# Altium footprint library KM_BD01.PcbLib: 27 footprints (part 1 of 2)
Each footprint in its own frame and in the unit in brackets; x right, y up, seen from the top. Pads: shape width x height; smd on the part's side, far side on the other; paste and mask are expansions set on the pad; w line width, h text height; cw(c..) or ccw(c..) is an arc to the next point about the centre after c.
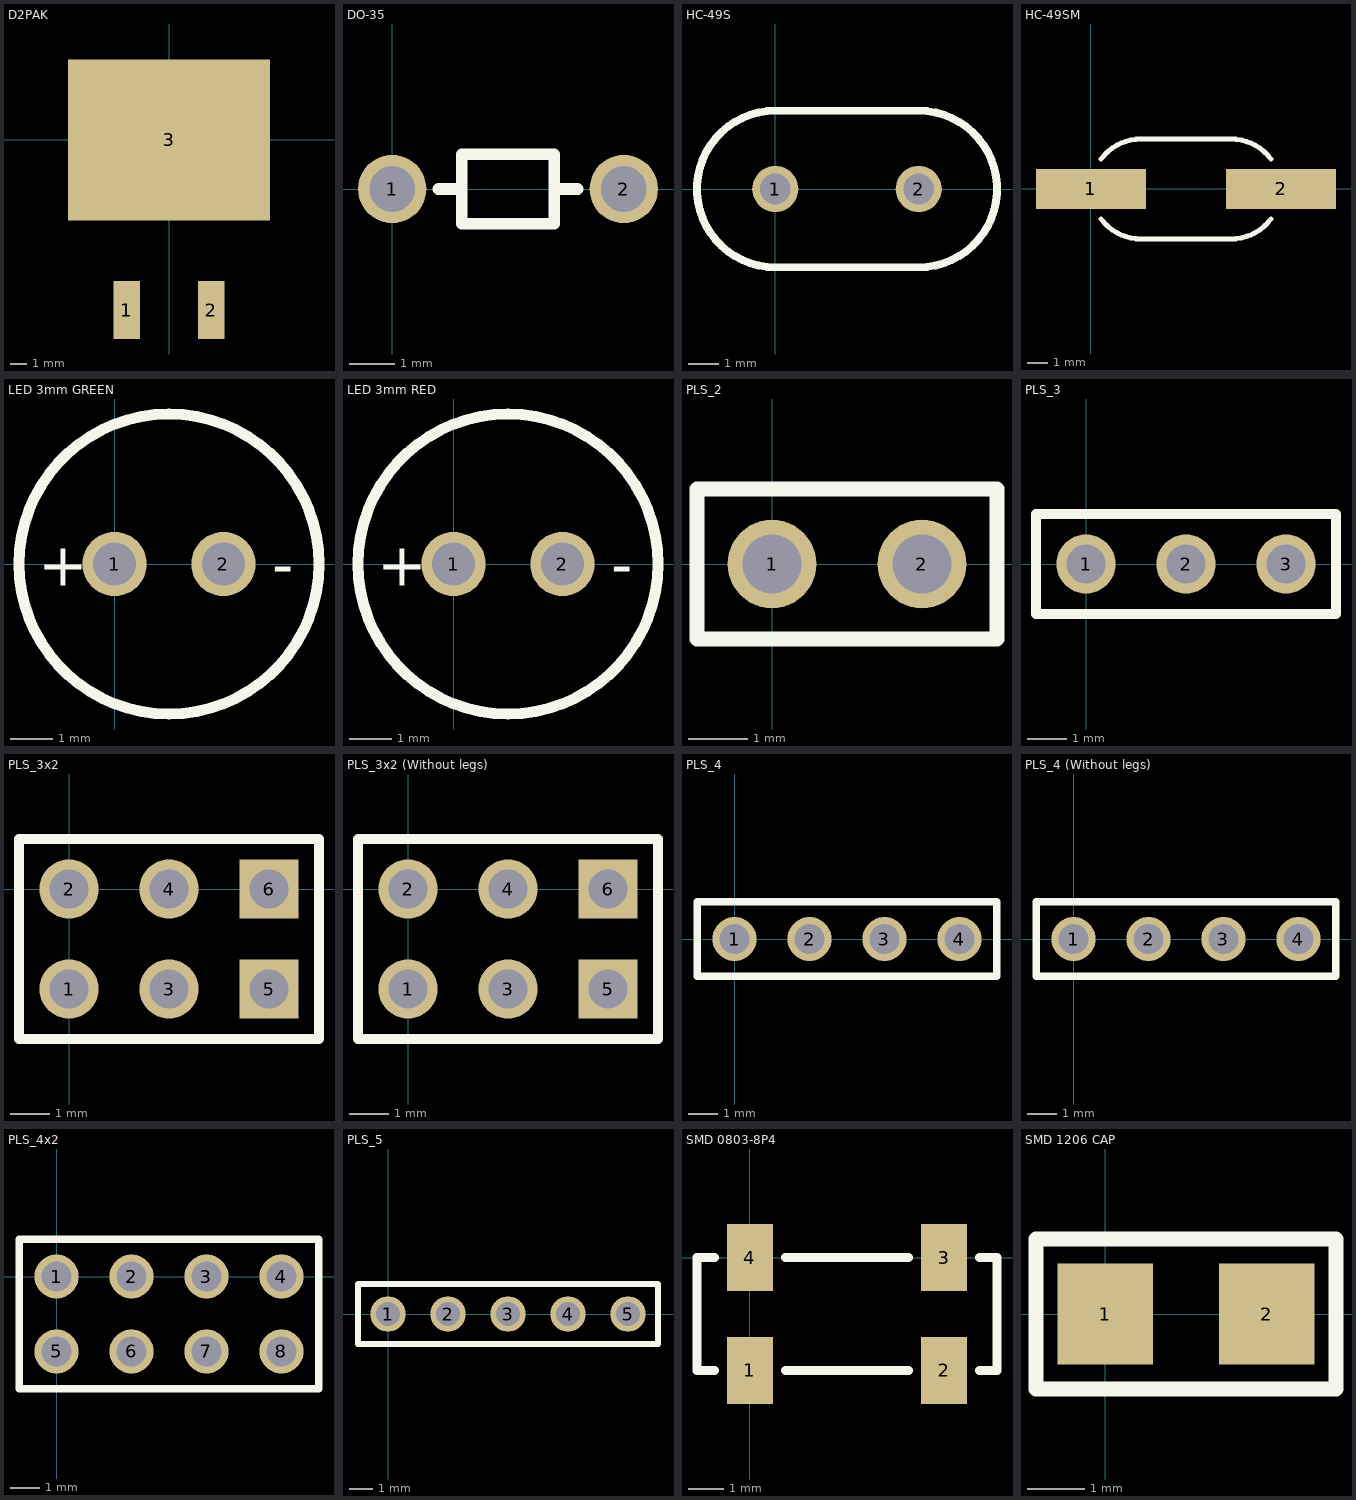
[diagram p0: the footprints below, top view; thin cyan lines are the x and y axes]

## D2PAK [mm]
pads (3):
  rect 1.6x3.5 smd: 1(-2.54,-10.275) 2(2.54,-10.275)
  rect 12.2x9.75 smd: 3(0,0)
3D body "TO-263AB.stp": height 4.8, standoff 0, extent -5.321,-11.556 5.321,4.294

## DO-35 [mm]
pads (2):
  round 1.5 hole 1: 1(0,0) 2(5.08,0)
Top Overlay:
  lines w0.254: 1.016,0 1.524,0 ; 3.556,0 4.064,0 ; 1.524,-0.762 3.556,-0.762 3.556,0.762 1.524,0.762 1.524,-0.762
3D body "DO-35 diode.STEP": height 1.51, standoff -0.75, extent -0.185,-0.76 5.265,0.76

## HC-49S [mm] "Oscillator"
pads (2):
  round 1.5 hole 1: 1(0,0) 2(4.65,0)
Top Overlay:
  lines w0.254: 0,-2.54 cw(c0,0) 0,2.54 4.65,2.54 cw(c4.65,0) 4.65,-2.54 0,-2.54
3D body "HC-49S.stp": height 4, standoff -3, extent -3.314,-2.425 7.886,2.425

## HC-49SM [mm] "SMD version of HC-49S"
pads (2):
  rect 5.5x2 smd: 1(0,0) 2(9.5,0)
Top Overlay:
  lines w0.254: 0.5,-1.5 ccw(c2.5,0) 2.5,-2.5 7,-2.5 ccw(c7,0) 9,-1.5 ; 0.5,1.5 cw(c2.5,0) 2.5,2.5 7,2.5 cw(c7,0) 9,1.5
3D body "HC-49SM.stp": height 4, standoff 0, extent -1.95,-2.4 11.45,2.4

## LED 3mm GREEN [mm]
pads (2):
  round 1.5 hole 1.01: 1(0,0) 2(2.54,0)
Top Overlay:
  circle w0.254: c1.27,0 r3.5
  text "-" at 3.683,-0.508 h1.02
  text "+" at -1.778,-0.508 h1.02
3D body "LED 5mm green TH.stp": height 9.2, standoff -2.95, extent -1.68,-2.949 3.72,2.949

## LED 3mm RED [mm]
pads (2):
  round 1.5 hole 1.01: 1(0,0) 2(2.54,0)
Top Overlay:
  circle w0.254: c1.27,0 r3.5
  text "+" at -1.778,-0.508 h1.02
  text "-" at 3.683,-0.508 h1.02
3D body "LED 5mm red TH.stp": height 9.2, standoff -2.95, extent -1.68,-2.949 3.72,2.949

## PLS_2 [mm]
pads (2):
  round 1.5 hole 1: 1(0,0) 2(2.54,0)
Top Overlay:
  lines w0.254: -1.27,-1.27 -1.27,1.27 3.81,1.27 3.81,-1.27 -1.27,-1.27
3D body "PLS-1x2 R.stp": height 2.5, standoff -3, extent -1.27,-10.03 3.81,0.32

## PLS_3 [mm]
pads (3):
  round 1.5 hole 1: 1(0,0) 2(2.54,0) 3(5.08,0)
Top Overlay:
  lines w0.254: -1.27,-1.27 -1.27,1.27 6.35,1.27 6.35,-1.27 -1.27,-1.27
3D body "PLS-1x3 R.stp": height 2.5, standoff -3, extent -1.27,-10.03 6.35,0.32

## PLS_3x2 [mm]
pads (6):
  round 1.5 hole 1: 1(0,-2.54) 2(0,0) 3(2.54,-2.54) 4(2.54,0)
  rect 1.5x1.5 hole 1: 5(5.08,-2.54) 6(5.08,0)
Top Overlay:
  lines w0.254: -1.27,-3.81 -1.27,1.27 6.35,1.27 6.35,-3.81 -1.27,-3.81
3D body "PLS-2x3 R.stp": height 5, standoff -3, extent -1.27,-12.72 6.35,0.32

## PLS_3x2 (Without legs) [mm]
pads (6):
  round 1.5 hole 1: 1(0,-2.54) 2(0,0) 3(2.54,-2.54) 4(2.54,0)
  rect 1.5x1.5 hole 1: 5(5.08,-2.54) 6(5.08,0)
Top Overlay:
  lines w0.254: -1.27,-3.81 6.35,-3.81 6.35,1.27 -1.27,1.27 -1.27,-3.81

## PLS_4 [mm]
pads (4):
  round 1.5 hole 1: 1(0,0) 2(2.54,0) 3(5.08,0) 4(7.62,0)
Top Overlay:
  lines w0.254: -1.27,-1.27 -1.27,1.27 8.89,1.27 8.89,-1.27 -1.27,-1.27
3D body "PLS-1x4 R.stp": height 2.5, standoff -3, extent -1.27,-10.03 8.89,0.32

## PLS_4 (Without legs) [mm]
pads (4):
  round 1.5 hole 1: 1(0,0) 2(2.54,0) 3(5.08,0) 4(7.62,0)
Top Overlay:
  lines w0.254: -1.27,-1.27 -1.27,1.27 8.89,1.27 8.89,-1.27 -1.27,-1.27

## PLS_4x2 [mm]
pads (8):
  round 1.5 hole 1: 1(0,0) 2(2.54,0) 3(5.08,0) 4(7.62,0) 5(0,-2.54) 6(2.54,-2.54) 7(5.08,-2.54) 8(7.62,-2.54)
Top Overlay:
  lines w0.254: -1.27,-3.81 -1.27,1.27 8.89,1.27 8.89,-3.81 -1.27,-3.81

## PLS_5 [mm]
pads (5):
  round 1.5 hole 1: 1(0,0) 2(2.54,0) 3(5.08,0) 4(7.62,0) 5(10.16,0)
Top Overlay:
  lines w0.254: -1.27,-1.27 -1.27,1.27 11.43,1.27 11.43,-1.27 -1.27,-1.27
3D body "PLS-1x5 R.stp": height 2.5, standoff -3, extent -1.27,-10.03 11.43,0.32

## SMD 0803-8P4 [mm] "Oscillator"
pads (4):
  rect 1.3x1.9 smd: 1(0,-3.2) 2(5.5,-3.2) 3(5.5,0) 4(0,0)
Top Overlay:
  lines w0.254: -1,-3.2 -1.5,-3.2 -1.5,0 -1,0 ; 1,-3.2 4.5,-3.2 ; 1,0 4.5,0 ; 6.5,-3.2 7,-3.2 7,0 6.5,0
3D body "smd08038p4.STEP": height 2.35, standoff -0.05, extent -1.2,-3.5 6.8,0.3

## SMD 1206 CAP [mm]
pads (2):
  rect 1.65x1.75 smd: 1(0,0) 2(2.8,0)
Top Overlay:
  lines w0.254: -1.2,-1.3 -1.2,1.3 4,1.3 4,-1.3 -1.2,-1.3
3D body "CAPC-1206-T1.0-BN.stp": height 1, standoff 0, extent -0.405,-0.875 2.945,0.875